# Altium schematic symbol library Diode_TVS_Quad_Bi.Schlib: 1 symbol
Pins are listed as number, name and electrical type; pins without a type are passive.

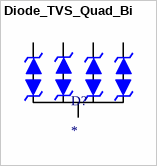
[diagram p0: symbol Diode_TVS_Quad_Bi]

## Diode_TVS_Quad_Bi
designator D?
Quad Bidirectional TVS diode
pins: C1, C2, C2, C2, CC